# Altium schematic symbol library CN HDR 10POS MOLEX 0430451012.Schlib: 1 symbol
Pins are listed as number, name and electrical type; pins without a type are passive.

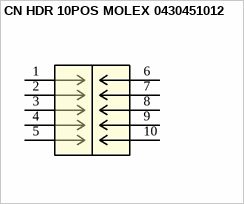
[diagram p0: symbol CN HDR 10POS MOLEX 0430451012]

## CN HDR 10POS MOLEX 0430451012
designator J?, comment 8A Molex
CONN HEADER VERT 10POS 3MM
footprint MOLEX_0430451012
pins: 1, 2, 3, 4, 5, 6, 7, 8, 9, 10